# EAGLE library part NE555DT (library ST Microelctronics_By_element14_Batch_1)
General-purpose single bipolar timers
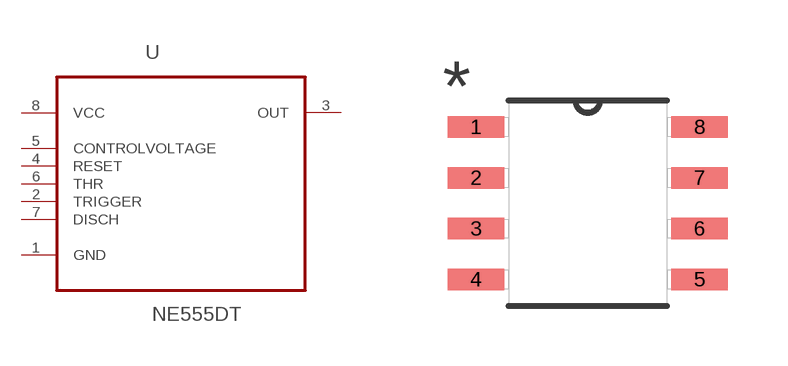
[diagram p284: symbol with the pads of SOIC127P600X175-8N; footprint SOIC127P600X175-8N]

Designator prefix U

## NE555DT (MPN: NE555DT; OC_FARNELL: 1467741; OC_NEWARK: 89K1485; PACKAGE: SOIC-8; SUPPLIER: STMICROELECTRONICS)  [SOIC127P600X175-8N]
1  GND  pas
2  TRIGGER  in
3  OUT  out
4  RESET  in
5  CONTROLVOLTAGE  in
6  THR  in
7  DISCH  in
8  VCC  pwr

## Footprint SOIC127P600X175-8N (pad centres in mm)
smd 1.422 x 0.533: 1 -2.794,1.905; 2 -2.794,0.635; 3 -2.794,-0.635; 4 -2.794,-1.905; 5 2.794,-1.905; 6 2.794,-0.635; 7 2.794,0.635; 8 2.794,1.905